# Altium footprint library switch-SS12D11-G5_2024-05-03.PcbLib: 1 footprints
Each footprint in its own frame and in the unit in brackets; x right, y up, seen from the top. Pads: shape width x height; smd on the part's side, far side on the other; paste and mask are expansions set on the pad; w line width, h text height; cw(c..) or ccw(c..) is an arc to the next point about the centre after c.
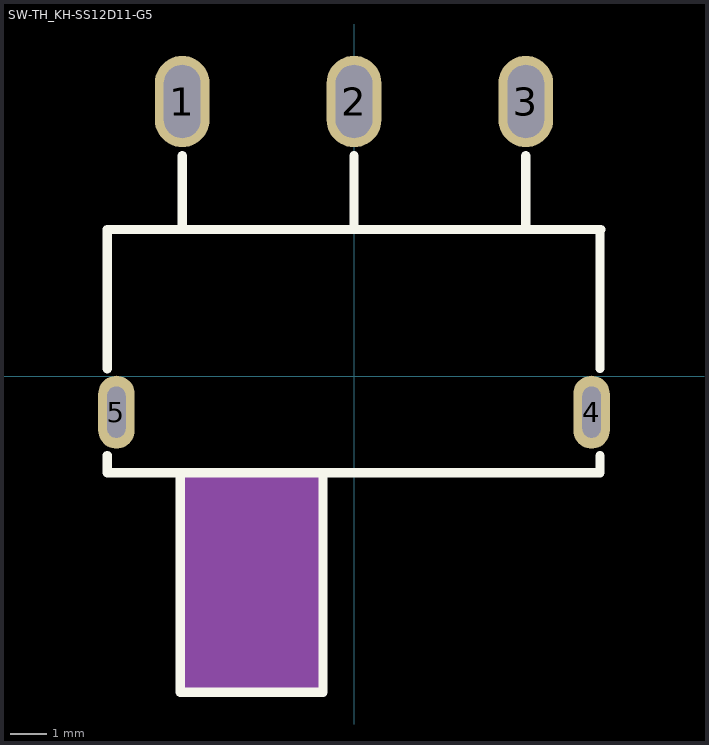
[diagram p0: the footprint, top view; thin cyan lines are the x and y axes]

## SW-TH_KH-SS12D11-G5 [mm]
pads (5):
  oval 1.5x2.5 hole 1 slot 2 at 90 deg paste+0 mask+0.051: 1(-4.7,7.519) 2(0,7.519) 3(4.7,7.519)
  oval 1x2 hole 0.5 slot 1.4 at 90 deg paste+0 mask+0.051: 4(6.5,-0.981) 5(-6.5,-0.981)
Top Overlay:
  lines w0.254: -6.75,-2.168 -6.75,-2.641 6.731,-2.641 6.731,-2.175 ; -6.75,0.205 -6.75,4.019 6.75,4.019 ; -4.753,-2.641 -4.753,-8.642 -0.85,-8.642 -0.85,-2.641 ; -4.699,4.019 -4.699,6.037 ; 0,4.019 0,6.037 ; 4.699,4.019 4.699,6.037 ; 6.731,0.212 6.731,4.019
Mechanical 15:
  region: -4.7,-2.632 -4.7,-8.631 -0.9,-8.631 -0.9,-2.632